# Altium footprint library TI-VSSOP-10.PcbLib: 1 footprints
Each footprint in its own frame and in the unit in brackets; x right, y up, seen from the top. Pads: shape width x height; smd on the part's side, far side on the other; paste and mask are expansions set on the pad; w line width, h text height; cw(c..) or ccw(c..) is an arc to the next point about the centre after c.
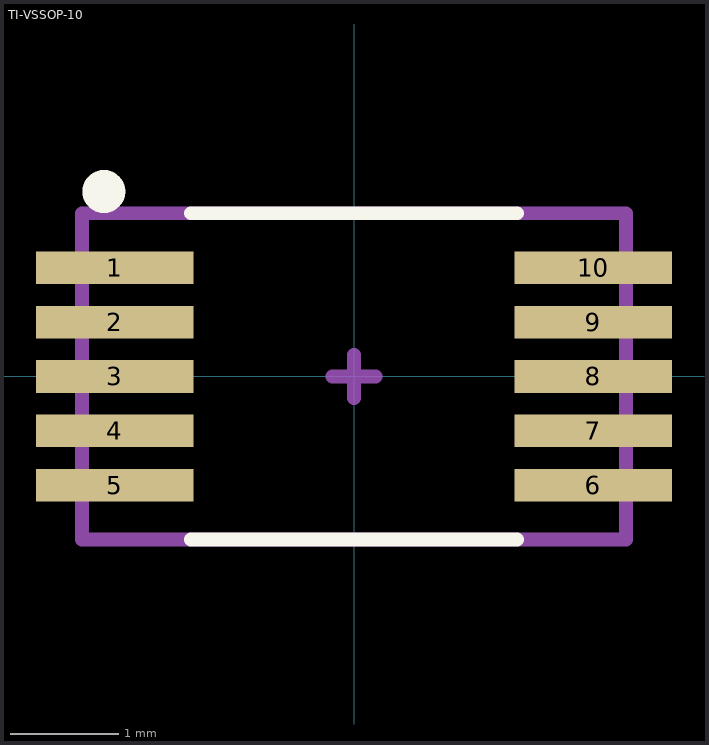
[diagram p0: the footprint, top view; thin cyan lines are the x and y axes]

## TI-VSSOP-10 [mm]
height 1.1
pads (10):
  rect 1.45x0.3 smd mask+0.051: 1(-2.2,1) 2(-2.2,0.5) 3(-2.2,0) 4(-2.2,-0.5) 5(-2.2,-1) 6(2.2,-1) 7(2.2,-0.5) 8(2.2,0) 9(2.2,0.5) 10(2.2,1)
Top Overlay:
  circle w0.254: c-2.3,1.7 r0.071
  lines w0.127: -1.5,-1.5 1.5,-1.5 ; -1.5,1.5 1.5,1.5
Top Designator:
  text ".Designator" at -7.618,-0.341 h1.52
3D Body:
  lines w0.127: -2.5,-1.5 2.5,-1.5 2.5,1.5 -2.5,1.5 -2.5,-1.5
Center Cross:
  lines w0.127: -0.2,0 0,0 ; 0,-0.2 0,0 ; 0,0.2 0,0 ; 0.2,0 0,0
3D body "TI-VSSOP-10_P05mm.stp": height 1.11, standoff 0.01, extent -2.462,-1.5 2.463,1.5